# Altium schematic symbol library COMP_MCP6541RT-E&slash_OT.SchLib: 2 symbols
Pins are listed as number, name and electrical type; pins without a type are passive.

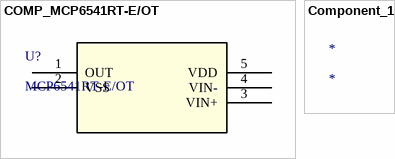
[diagram p0: symbols COMP_MCP6541RT-E/OT to Component_1]

## COMP_MCP6541RT-E/OT
designator U?, comment MCP6541RT-E/OT
No Description Available; Mfr_Name: Microchip; Copyright: Copyright (C) 2023 Ultra Librarian. All rights reserved.; Manufacturer_Part_Number: MCP6541RT-E/OT; Digi-Key_Part_Number_1: MCP6541RT-E/OTCT-ND; Digi-Key_Part_Number_2: MCP6541RT-E/OTDKR-ND; Digi-Key_Part_Number_3: MCP6541RT-E/OTTR-ND; RefDes: RefDes; Type: DEV
footprint SOT-23-5_MC_MCH
pins: 1 OUT, 2 VSS, 3 VIN+, 4 VIN-, 5 VDD

## Component_1
designator *